# Altium schematic symbol library VCF4-1000.SchLib: 1 symbol
Pins are listed as number, name and electrical type; pins without a type are passive.

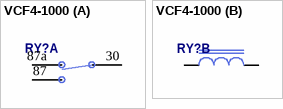
[diagram p0: symbol VCF4-1000]

## VCF4-1000
designator RY?  (value not drawn)
5 Pin Automotive ISO Relay Socket
part A pins: 30 COM, 87 3Y1, 87a NC
part B pins: 85, 86